# EAGLE library part KA2206BN (library Audio-Power-amplifier)
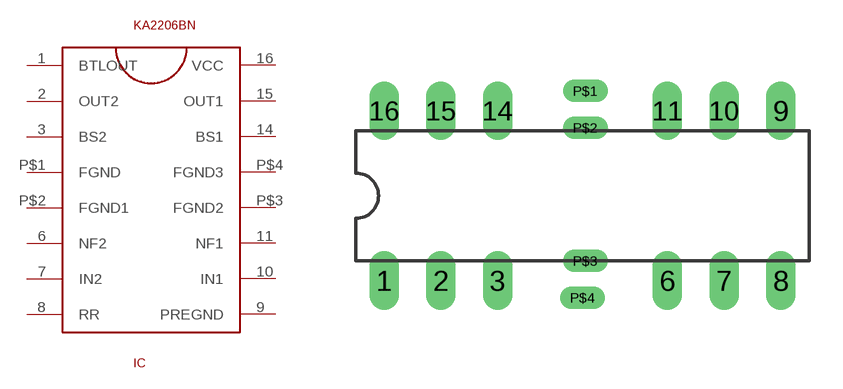
[diagram p25: symbol with the pads of 12-DIPH-300; footprint 12-DIPH-300]

Designator prefix IC

## KA2206BN  [12-DIPH-300]
1  BTLOUT  out
2  OUT2  out
3  BS2
6  NF2
7  IN2  in
8  RR
9  PREGND  pwr
10  IN1  in
11  NF1
14  BS1
15  OUT1  out
16  VCC  pwr
P$1  FGND  pwr
P$2  FGND1  pwr
P$3  FGND2  pwr
P$4  FGND3  pwr

## Footprint 12-DIPH-300 (pad centres in mm)
Dual In Line Package
drill 0.813 long: 1 -8.89,-3.81; 2 -6.35,-3.81; 3 -3.81,-3.81; 6 3.81,-3.81; 7 6.35,-3.81; 8 8.89,-3.81; 9 8.89,3.81; 10 6.35,3.81; 11 3.81,3.81; 14 -3.81,3.81; 15 -6.35,3.81; 16 -8.89,3.81
drill 0.003 pad 1.016 long: P$1 0.127,4.699; P$2 0.127,3.048; P$3 0.127,-2.921; P$4 0,-4.572